# EAGLE library part PSH04-09 (library #PaJa_konektory)
Konektory se zamkem - vidlice - 9pin, RM3,96mm
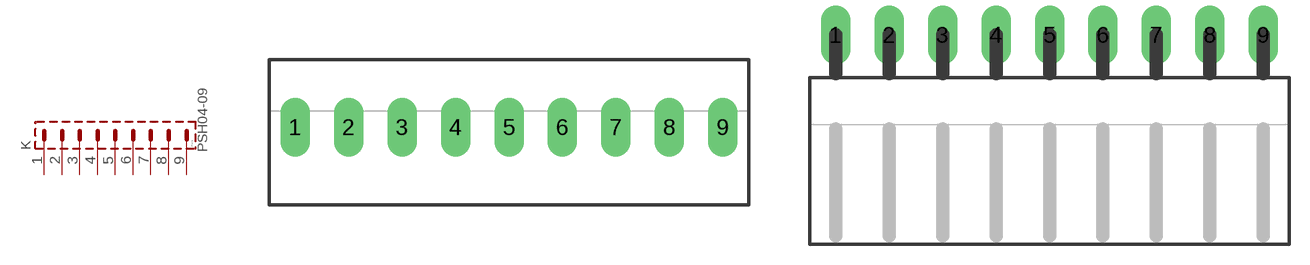
[diagram p17: symbol with the pads of PSH04-09P; footprints PSH04-09P, PSH04-09W]

Designator prefix K

## PSH04-09P  [PSH04-09P]
1  1  pas
2  2  pas
3  3  pas
4  4  pas
5  5  pas
6  6  pas
7  7  pas
8  8  pas
9  9  pas

## PSH04-09W  [PSH04-09W]
Pads as for PSH04-09P

## Footprint PSH04-09P (pad centres in mm)
drill 1.2 pad 2.184 long: 1 -15.85,0; 2 -11.887,0; 3 -7.925,0; 4 -3.962,0; 5 0,0; 6 3.962,0; 7 7.925,0; 8 11.887,0; 9 15.85,0

## Footprint PSH04-09W (pad centres in mm)
drill 1.2 pad 2.184 long: 1 -15.85,0; 2 -11.887,0; 3 -7.925,0; 4 -3.962,0; 5 0,0; 6 3.962,0; 7 7.925,0; 8 11.887,0; 9 15.85,0